# Altium schematic symbol library VHS-95.SchLib: 1 symbol
Pins are listed as number, name and electrical type; pins without a type are passive.

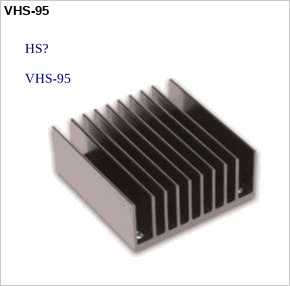
[diagram p0: symbol VHS-95]

## VHS-95
designator HS?